# Altium footprint library Lib.PcbLib: 1 footprints
Each footprint in its own frame and in the unit in brackets; x right, y up, seen from the top. Pads: shape width x height; smd on the part's side, far side on the other; paste and mask are expansions set on the pad; w line width, h text height; cw(c..) or ccw(c..) is an arc to the next point about the centre after c.
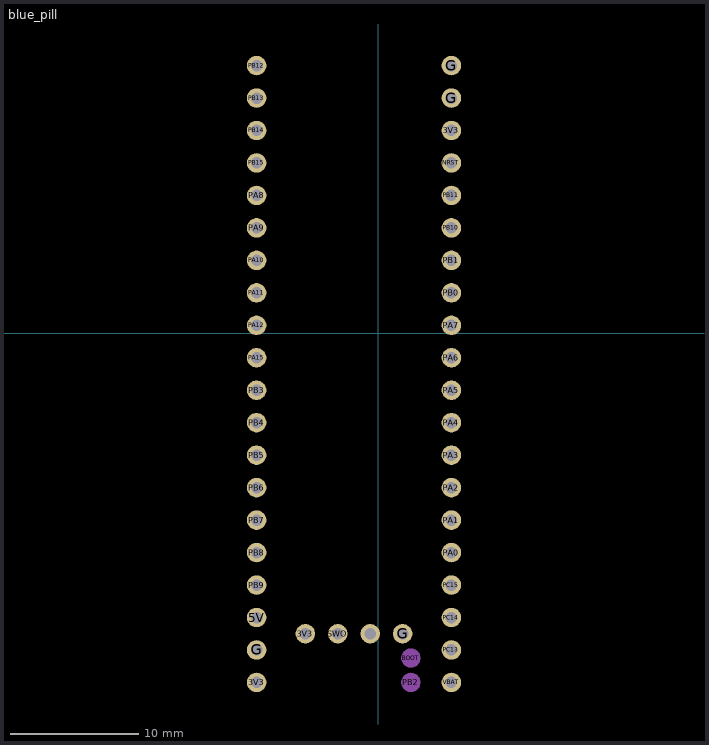
[diagram p0: the footprint, top view; thin cyan lines are the x and y axes]

## blue_pill [mil]
pads (46):
  round 60 hole 35.43: 3V3(-375,-1075) 3V3(-225,-925) 3V3(225,625) 5V(-375,-875) G(-375,-975) G(75,-925) G(225,725) G(225,825) NRST(225,525) PA0(225,-675) PA1(225,-575) PA2(225,-475) PA3(225,-375) PA4(225,-275) PA5(225,-175) PA6(225,-75) PA7(225,25) PA8(-375,425) PA9(-375,325) PA10(-375,225) PA11(-375,125) PA12(-375,25) PA15(-375,-75) PB0(225,125) PB1(225,225) PB3(-375,-175) PB4(-375,-275) PB5(-375,-375) PB6(-375,-475) PB7(-375,-575) PB8(-375,-675) PB9(-375,-775) PB10(225,325) PB11(225,425) PB12(-375,825) PB13(-375,725) PB14(-375,625) PB15(-375,525) PC13(225,-975) PC14(225,-875) PC15(225,-775) SWCLK(-25,-925) SWO(-125,-925) VBAT(225,-1075)
  round 60 on Mech2: BOOT(100,-1000) PB2(100,-1075)